# Altium schematic symbol library MPU6050.SchLib: 1 symbol
Pins are listed as number, name and electrical type; pins without a type are passive.

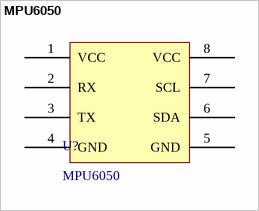
[diagram p0: symbol MPU6050]

## MPU6050
designator U?
footprint MPU6050
pins: 1 VCC, 2 RX, 3 TX, 4 GND, 5 GND, 6 SDA, 7 SCL, 8 VCC